# EAGLE library part BEAGLEBOARD-XM-CAMERA (library GTA04b7)
Camera interface of BeagleBoard XM
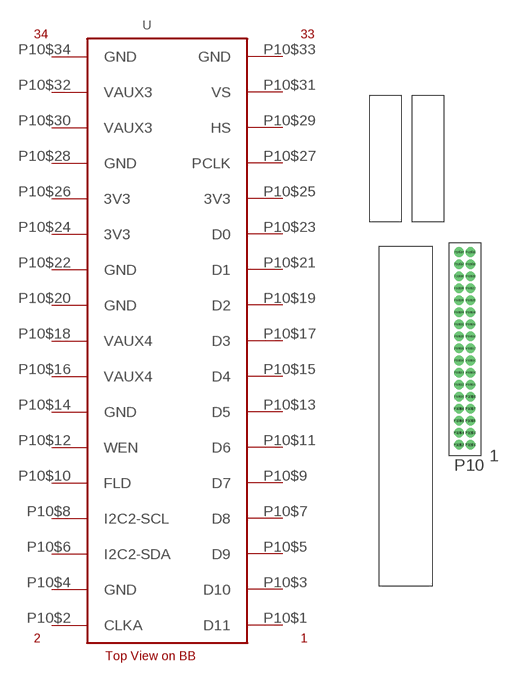
[diagram p2: symbol with the pads of BEAGLEBOARD-XM-CAM; footprint BEAGLEBOARD-XM-CAM]

Designator prefix -

## BEAGLEBOARD-XM-CAMERA  [BEAGLEBOARD-XM-CAM]
P10$1  D11  in
P10$2  CLKA  in
P10$3  D10  in
P10$4  GND  pwr
P10$5  D9  in
P10$6  I2C2-SDA
P10$7  D8  in
P10$8  I2C2-SCL
P10$9  D7  in
P10$10  FLD  in
P10$11  D6  in
P10$12  WEN  in
P10$13  D5  in
P10$14  GND  pwr
P10$15  D4  in
P10$16  VAUX4  pwr
P10$17  D3  in
P10$18  VAUX4  pwr
P10$19  D2  in
P10$20  GND  pwr
P10$21  D1  in
P10$22  GND  pwr
P10$23  D0  in
P10$24  3V3  pwr
P10$25  3V3  pwr
P10$26  3V3  pwr
P10$27  PCLK  in
P10$28  GND  pwr
P10$29  HS  in
P10$30  VAUX3  pwr
P10$31  VS  in
P10$32  VAUX3  pwr
P10$33  GND  pwr
P10$34  GND  pwr

## Footprint BEAGLEBOARD-XM-CAM (pad centres in mm)
J3,J4,J5 of BeagleBoard (top View)
drill 0.5: P10$1 9.63,-24.47; P10$2 8.4,-24.47; P10$3 9.63,-23.2; P10$4 8.4,-23.2; P10$5 9.63,-21.93; P10$6 8.4,-21.93; P10$7 9.63,-20.66; P10$8 8.4,-20.66; P10$9 9.63,-19.39; P10$10 8.4,-19.39; P10$11 9.63,-18.12; P10$12 8.4,-18.12; P10$13 9.63,-16.85; P10$14 8.4,-16.85; P10$15 9.63,-15.58; P10$16 8.4,-15.58; P10$17 9.63,-14.31; P10$18 8.4,-14.31; P10$19 9.63,-13.04; P10$20 8.4,-13.04; P10$21 9.63,-11.77; P10$22 8.4,-11.77; P10$23 9.63,-10.5; P10$24 8.4,-10.5; P10$25 9.63,-9.23; P10$26 8.4,-9.23; P10$27 9.63,-7.96; P10$28 8.4,-7.96; P10$29 9.63,-6.69; P10$30 8.4,-6.69; P10$31 9.63,-5.42; P10$32 8.4,-5.42; P10$33 9.63,-4.15; P10$34 8.4,-4.15